# EAGLE library part 4093 (library be_logic)
drawn: Mario Blunk / Blunk electronic
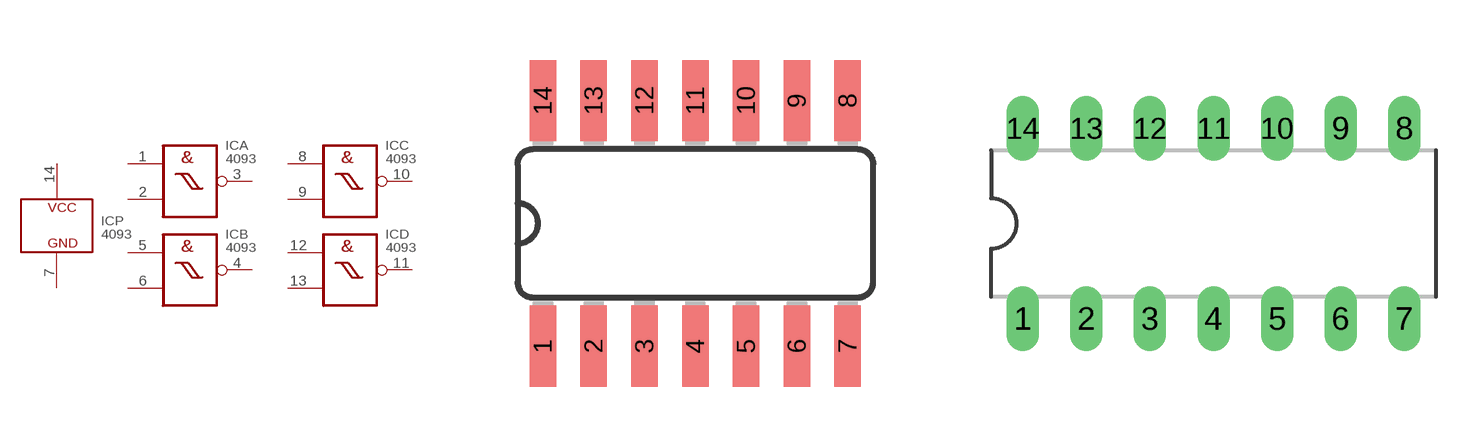
[diagram p0: symbol with the pads of S_SO14; footprints S_SO14, T_NDIP14]

Designator prefix IC; gates A=NAND_ST B=NAND_ST C=NAND_ST D=NAND_ST P=PWR

## 4093D (BOM: YES; COMMISSIONED: 2013-05-06; PART_CODE_BEL: IC_PAC_S_SO14_VAL_4093)  [S_SO14]
1  A:I0  in
2  A:I1  in
3  A:O  out
4  B:O  out
5  B:I0  in
6  B:I1  in
7  P:GND  pwr
8  C:I0  in
9  C:I1  in
10  C:O  out
11  D:O  out
12  D:I0  in
13  D:I1  in
14  P:VCC  pwr

## 4093N (BOM: YES; COMMISSIONED: 2014-09-06; PART_CODE_BEL: IC_PAC_T_NDIP14_VAL_4093N)  [T_NDIP14]
Pads as for S_SO14

## Footprint S_SO14 (pad centres in mm)
edited: Mario Blunk / Blunk electronic date: 2013-05-06
smd 0.66 x 2.032: 1 -3.81,-3.073; 2 -2.54,-3.073; 3 -1.27,-3.073; 4 0,-3.073; 5 1.27,-3.073; 6 2.54,-3.073; 7 3.81,-3.073; 8 3.81,3.073; 9 2.54,3.073; 10 1.27,3.073; 11 0,3.073; 12 -1.27,3.073; 13 -2.54,3.073; 14 -3.81,3.073

## Footprint T_NDIP14 (pad centres in mm)
edited: Mario Blunk / Blunk electronic date: 2013-05-06
drill 0.8 long: 1 -7.62,-3.81; 2 -5.08,-3.81; 3 -2.54,-3.81; 4 0,-3.81; 5 2.54,-3.81; 6 5.08,-3.81; 7 7.62,-3.81; 8 7.62,3.81; 9 5.08,3.81; 10 2.54,3.81; 11 0,3.81; 12 -2.54,3.81; 13 -5.08,3.81; 14 -7.62,3.81